# EAGLE library part LMR12010 (library X893)
http://www.ti.com/lit/ds/symlink/lmr12010.pdf
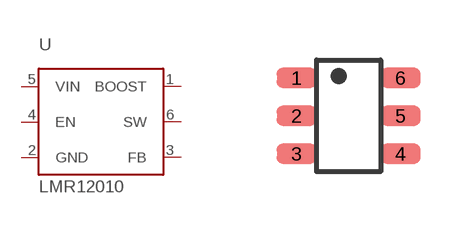
[diagram p243: symbol with the pads of SOT23-6; footprint SOT23-6]

Designator prefix U

## LMR12010  [SOT23-6]
1  BOOST
2  GND  pwr
3  FB
4  EN
5  VIN
6  SW

## Footprint SOT23-6 (pad centres in mm)
smd 1 x 0.5: 1 -1.3,0.95; 2 -1.3,0; 3 -1.3,-0.95; 4 1.3,-0.95; 5 1.3,0; 6 1.3,0.95